# Altium schematic symbol library Buttons.SchLib: 1 symbol
Pins are listed as number, name and electrical type; pins without a type are passive.

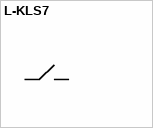
[diagram p0: symbol L-KLS7]

## L-KLS7
designator S, comment 0  (value not drawn)
L-KLS7-TS1202-9.0-180
footprint PLS-2 (X)
pins: 1, 2